# Altium schematic symbol library Global Library.SchLib: 120 symbols (part 2 of 2)
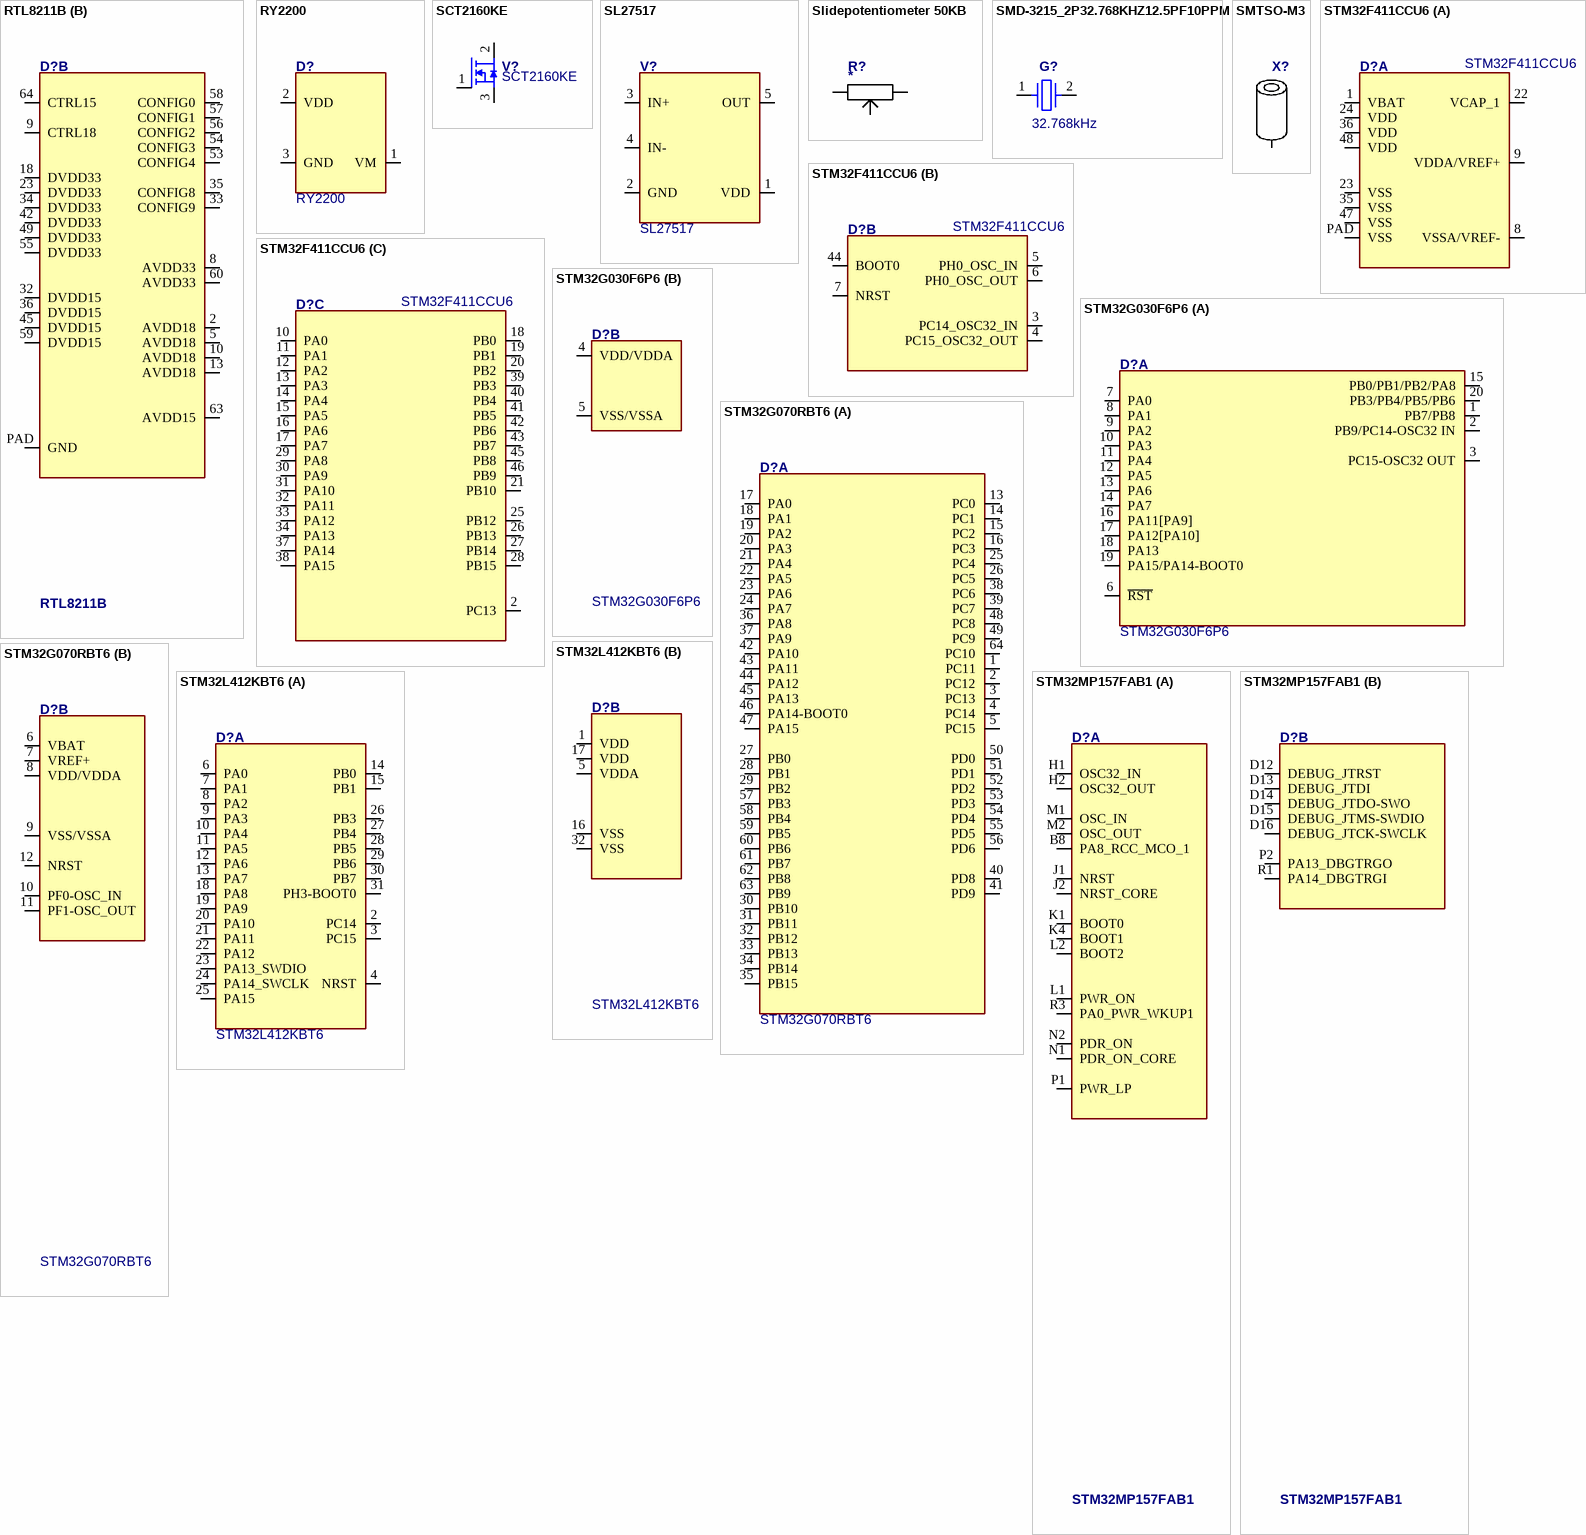
[diagram p8: symbols RTL8211B to STM32MP157FAB1]

## SCT2160KE
designator V?
MOSFET SIC 1200V 22A 160mOhm; Part_validated: No; Manufacturer: Rohm; GPV_Number: xxxx.xxxx; MNL_Number: xxxxxxxx; Value: SCT2160KE; Footprint_validated: No; PartStatus: New; System: -; ClassName: Through-Hole_Assy; Case/Package: TO247; Technology: THT; Manufacturer Part Number: SCT2160KE
footprint TO-247
footprint TO-247 bent bottom
pins: 1 G, 2 D, 3 S

## SL27517
designator V?
IC Gate Driver 4A; Part_validated: No; Manufacturer: SLKOR; GPV_Number: xxxx.xxxx; MNL_Number: xxxxxxxx; Value: SL27517; Footprint_validated: No; PartStatus: New; System: -; ClassName: Surface_Assy; Case/Package: SOT23-5; Technology: SMT; Manufacturer Part Number: SL27517
footprint SOT23-5_N_RF (SOT23, 5-Leads, Body 2.90x2.70mm, Pitch 0.95mm, IPC Medium Density)
pins: 1 VDD, 2 GND, 3 IN+, 4 IN-, 5 OUT

## Slidepotentiometer 50KB
designator R?
Slide Pot 50K center snap; Part_validated: Yes | No; Manufacturer: Hongyu; Manufacturer Part Number: HXX1N; GPV_Number: xxxx.xxxx; System: Connector; MNL_Number: xxxxxxxx; Value: *; Footprint_validated: Yes | No; PartStatus: New | Draft | Release; ClassName: Surface_Assy | Testpoint | Through-Hole_Assy | NetTie | Symbol | Mechanical; Case/Package: 0201 | 0402 | 0603 | 0805 | 1206 | SO8 | SO16 |; Technology: SMT | THT | SMT-BTC
footprint Slidepotentiometer 50K
pins: 1, 2, 3

## SMD-3215_2P32.768KHZ12.5PF10PPM
designator G?, comment 32.768kHz
Crystal Oscillator 32.768kHz 12.5pF ±20ppm; Part_validated: No; Manufacturer: ABEL ELECTRON; Manufacturer Part Number: SMD-3215_2P32.768KHZ12.5PF10PPM; GPV_Number: xxxx.xxxx; MNL_Number: xxxxxxxx; Value: 32.768kHz; Footprint_validated: No; PartStatus: New; System: -; ClassName: Surface_Assy; Case/Package: 3215; Technology: SMT
footprint G_3215_N_RF (Quarz Oscillator 2pin 3.2mm x 1.5mm)
pins: 1, 2

## SMTSO-M3
designator X?  (value not drawn)
CONN M3 Solder Nut 2, 4 or 6 mm high; Part_validated: No; GPV_Number: xxxx.xxxx; System: Connector; MNL_Number: xxxxxxxx; Value: *; Footprint_validated: No; PartStatus: New; ClassName: Through-Hole_Assy; Case/Package: 0201 | 0402 | 0603 | 0805 | 1206 | SO8 | SO16 |; Technology: THT; Manufacturer: *; Manufacturer Part Number: *
footprint SMTSO-M3-2ET
footprint SMTSO-M3-4ET
footprint SMTSO-M3-6ET
pins: 1

## STM32F411CCU6
designator D?
IC MCU Cortex-M4 256k Flash 128k RAM; Part_validated: No; Manufacturer: ST Microelectronics; GPV_Number: xxxx.xxxx; MNL_Number: xxxxxxxx; Value: STM32F411CCU6; Footprint_validated: No; PartStatus: New; System: -; ClassName: Surface_Assy; Case/Package: UFQFPN48; Technology: SMT; Manufacturer Part Number: STM32F411CCU6
footprint UFQFPN48_N_RF (QFN, 48-Leads, Body 7.00x7.00mm, Pitch 0.50mm, Thermal Pad 5.60x5.60mm, IPC Medium Density)
part A pins: 1 VBAT, 8 VSSA/VREF-, 9 VDDA/VREF+, 22 VCAP_1, 23 VSS, 24 VDD, 35 VSS, 36 VDD, 47 VSS, 48 VDD, PAD VSS
part B pins: 3 PC14_OSC32_IN, 4 PC15_OSC32_OUT, 5 PH0_OSC_IN, 6 PH0_OSC_OUT, 7 NRST, 44 BOOT0
part C pins: 2 PC13, 10 PA0, 11 PA1, 12 PA2, 13 PA3, 14 PA4, 15 PA5, 16 PA6, 17 PA7, 18 PB0, 19 PB1, 20 PB2, 21 PB10, 25 PB12, 26 PB13, 27 PB14, 28 PB15, 29 PA8, 30 PA9, 31 PA10, 32 PA11, 33 PA12, 34 PA13, 37 PA14, 38 PA15, 39 PB3, 40 PB4, 41 PB5, 42 PB6, 43 PB7, 45 PB8, 46 PB9

## STM32G030F6P6
designator D?
IC MCU Cortex M0+ 32K Flash, 8K RAM, 64MHz; Part_validated: No; Manufacturer: ST; GPV_Number: xxxx.xxxx; MNL_Number: xxxxxxxx; Value: STM32G030F6P6; Footprint_validated: No; PartStatus: New; System: -; ClassName: Surface_Assy; Case/Package: TSSOP20; Technology: SMT; Manufacturer Part Number: STM32G030F6P6; Supplier 1: Arrow Electronics; Supplier Part Number 1: STM32G030F6P6TR
footprint TSSOP20_N_RF
part A pins: 1 PB7/PB8, 2 PB9/PC14-OSC32 IN, 3 PC15-OSC32 OUT, 6 ~{RST}, 7 PA0, 8 PA1, 9 PA2, 10 PA3, 11 PA4, 12 PA5, 13 PA6, 14 PA7, 15 PB0/PB1/PB2/PA8, 16 PA11[PA9], 17 PA12[PA10], 18 PA13, 19 PA15/PA14-BOOT0, 20 PB3/PB4/PB5/PB6
part B pins: 4 VDD/VDDA, 5 VSS/VSSA

## STM32G070RBT6
designator D?
IC MCU Cortex M0+ 128k Flash, 36k RAM, 64MHz; Part_validated: No; Manufacturer: ST; GPV_Number: xxxx.xxxx; MNL_Number: xxxxxxxx; Value: STM32G070RBT6; Footprint_validated: No; PartStatus: New; System: -; ClassName: Surface_Assy; Case/Package: QFP64; Technology: SMT; Manufacturer Part Number: STM32G070RBT6
footprint LQFP64_50P1200X1200X160-64N (LQFP, 64-Leads, Body 10.00x10.00mm, Pitch 0.50mm, IPC Medium Density)
part A pins: 1 PC11, 2 PC12, 3 PC13, 4 PC14, 5 PC15, 13 PC0, 14 PC1, 15 PC2, 16 PC3, 17 PA0, 18 PA1, 19 PA2, 20 PA3, 21 PA4, 22 PA5, 23 PA6, 24 PA7, 25 PC4, 26 PC5, 27 PB0, 28 PB1, 29 PB2, 30 PB10, 31 PB11, 32 PB12, 33 PB13, 34 PB14, 35 PB15, 36 PA8, 37 PA9, 38 PC6, 39 PC7, 40 PD8, 41 PD9, 42 PA10, 43 PA11, 44 PA12, 45 PA13, 46 PA14-BOOT0, 47 PA15, 48 PC8, 49 PC9, 50 PD0, 51 PD1, 52 PD2, 53 PD3, 54 PD4, 55 PD5, 56 PD6, 57 PB3, 58 PB4, 59 PB5, 60 PB6, 61 PB7, 62 PB8, 63 PB9, 64 PC10
part B pins: 6 VBAT, 7 VREF+, 8 VDD/VDDA, 9 VSS/VSSA, 10 PF0-OSC_IN, 11 PF1-OSC_OUT, 12 NRST

## STM32L412KBT6
designator D?
IC MCU STM32; Part_validated: No; Manufacturer: STM; GPV_Number: xxxx.xxxx; MNL_Number: xxxxxxxx; Value: STM32L412KBT6; Footprint_validated: No; PartStatus: New; System: -; ClassName: Surface_Assy; Case/Package: LQFP32; Technology: SMT; Manufacturer Part Number: STM32L412KBT6
footprint LQFP32_N_RF (TQFP, 32-Leads, Body 7.00x7.00mm, Pitch 0.80mm, IPC Medium Density)
part A pins: 2 PC14, 3 PC15, 4 NRST, 6 PA0, 7 PA1, 8 PA2, 9 PA3, 10 PA4, 11 PA5, 12 PA6, 13 PA7, 14 PB0, 15 PB1, 18 PA8, 19 PA9, 20 PA10, 21 PA11, 22 PA12, 23 PA13_SWDIO, 24 PA14_SWCLK, 25 PA15, 26 PB3, 27 PB4, 28 PB5, 29 PB6, 30 PB7, 31 PH3-BOOT0
part B pins: 1 VDD, 5 VDDA, 16 VSS, 17 VDD, 32 VSS

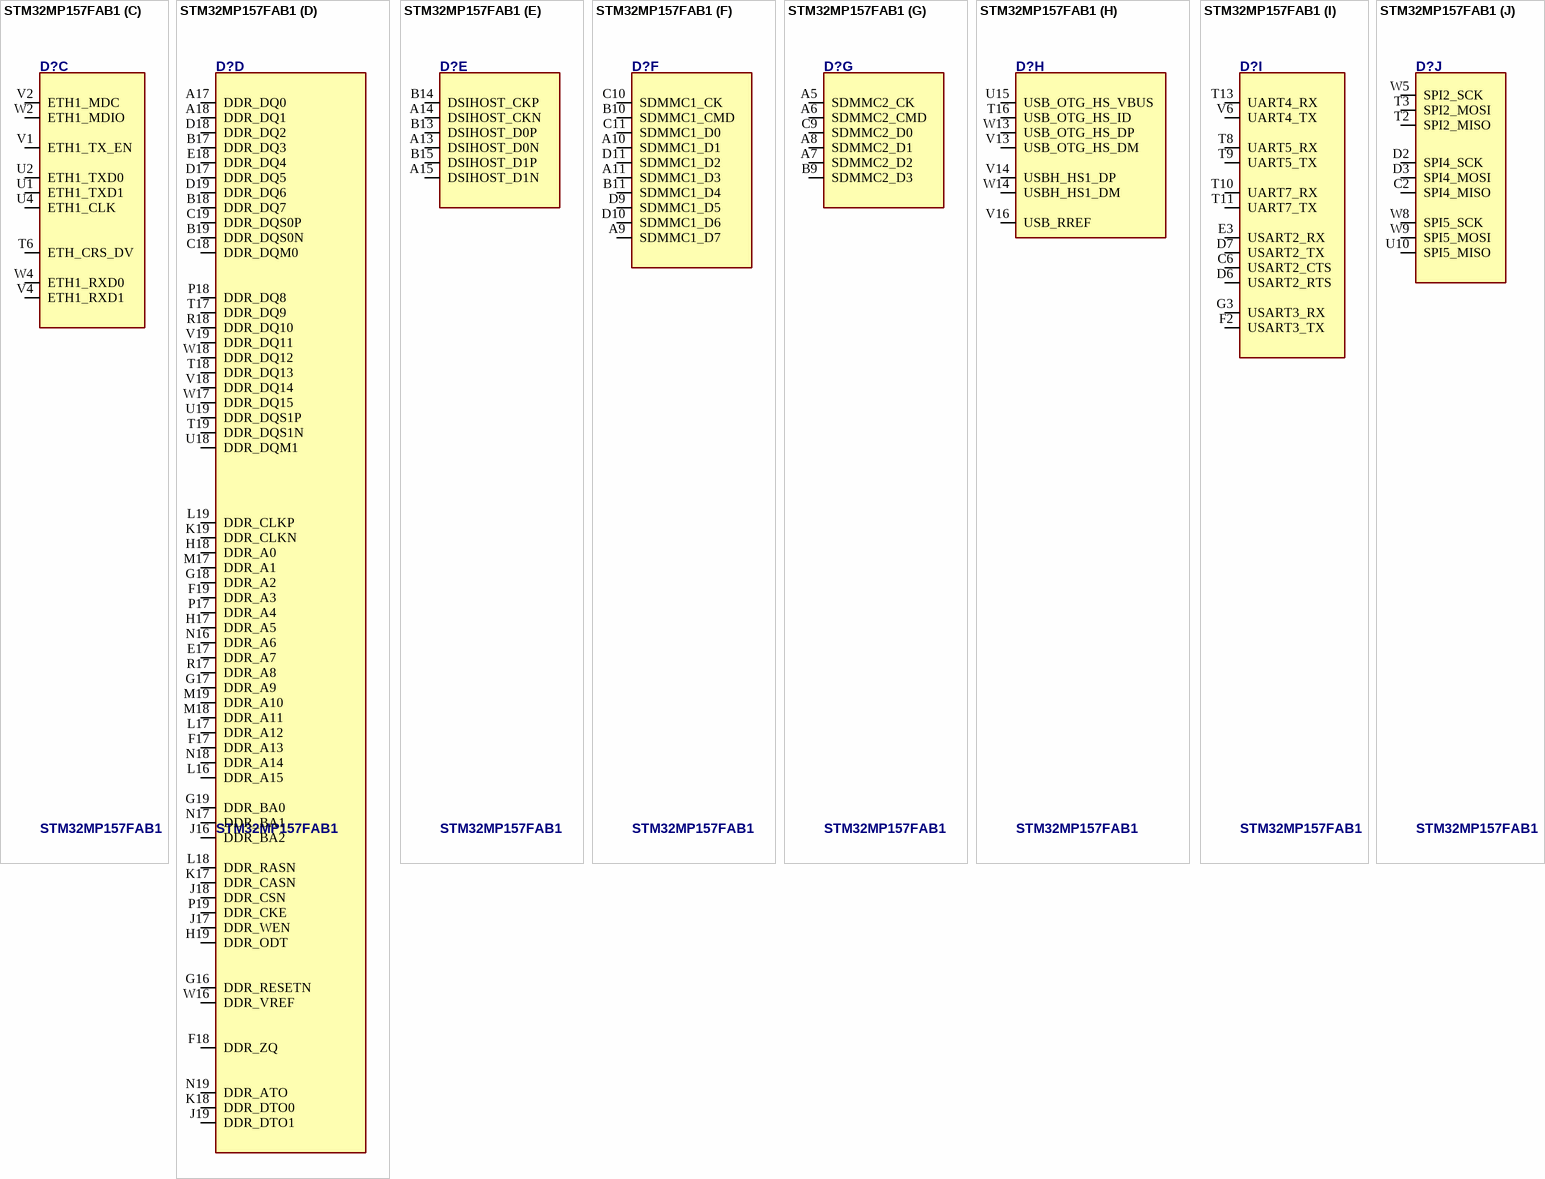
[diagram p5: symbol STM32MP157FAB1]

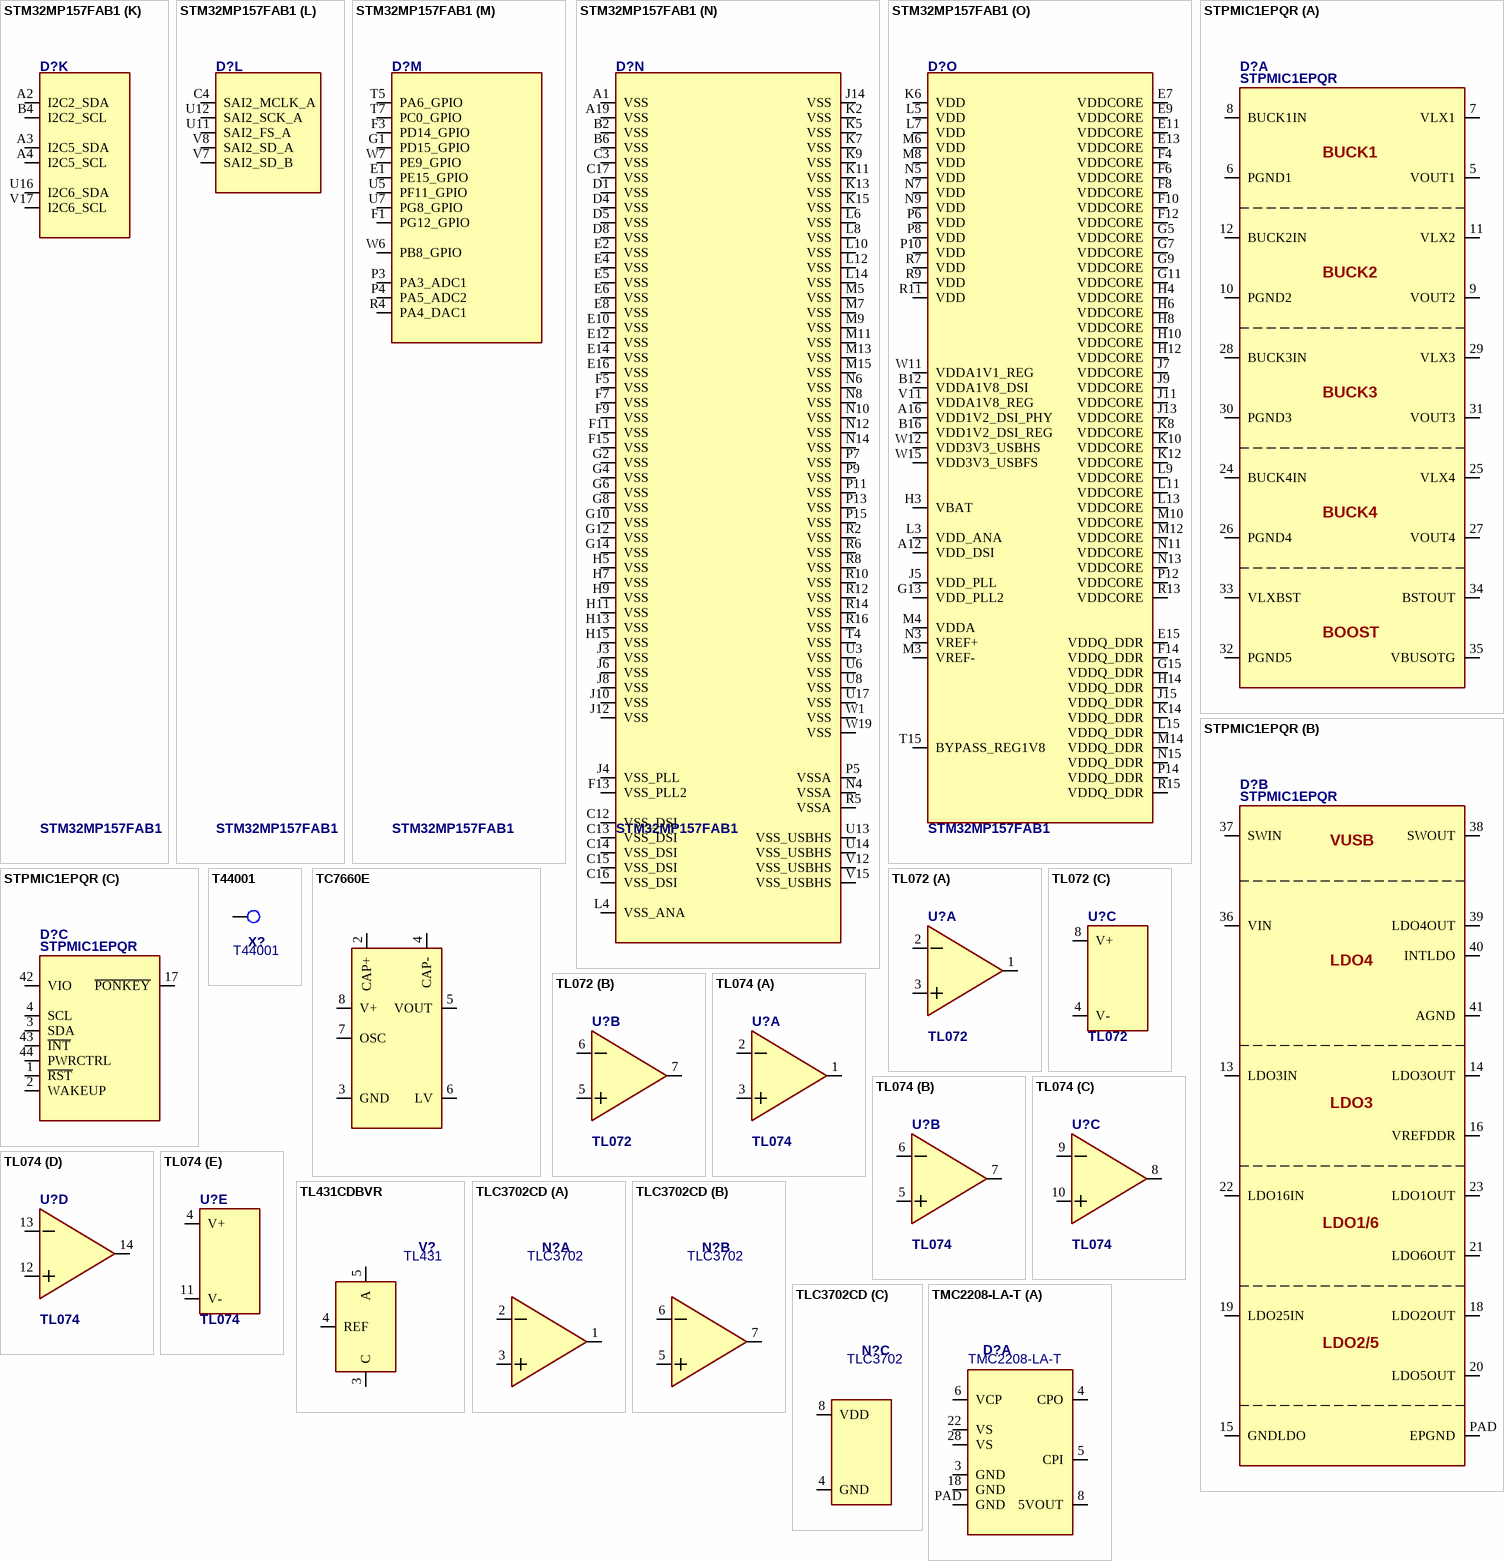
[diagram p6: symbols STM32MP157FAB1 to TMC2208-LA-T]

## STM32MP157FAB1
designator D?
CPU Dual Core Cortex-A7 800MHz; Part_validated: No; Manufacturer: STMicroelectronics; GPV_Number: xxxx.xxxx; MNL_Number: xxxxxxxx; Value: STM32MP157FAB1; Footprint_validated: No; PartStatus: New; System: -; ClassName: Surface_Assy | Testpoint | Through-Hole_Assy | NetTie | Symbol | Mechanical; Case/Package: 0201 | 0402 | 0603 | 0805 | 1206 | SO8 | SO16 |; Technology: SMT; Manufacturer Part Number: STM32MP157FAB1
footprint LFBGA354_N_RF (BGA, 354-Leads, Body 16.00x16.00mmx1.29mm, Pitch 0.80mm)
part A pins: B8 PA8_RCC_MCO_1, H1 OSC32_IN, H2 OSC32_OUT, J1 NRST, J2 NRST_CORE, K1 BOOT0, K4 BOOT1, L1 PWR_ON, L2 BOOT2, M1 OSC_IN, M2 OSC_OUT, N1 PDR_ON_CORE, N2 PDR_ON, P1 PWR_LP, R3 PA0_PWR_WKUP1
part B pins: D12 DEBUG_JTRST, D13 DEBUG_JTDI, D14 DEBUG_JTDO-SWO, D15 DEBUG_JTMS-SWDIO, D16 DEBUG_JTCK-SWCLK, P2 PA13_DBGTRGO, R1 PA14_DBGTRGI
part C pins: T6 ETH_CRS_DV, U1 ETH1_TXD1, U2 ETH1_TXD0, U4 ETH1_CLK, V1 ETH1_TX_EN, V2 ETH1_MDC, V4 ETH1_RXD1, W2 ETH1_MDIO, W4 ETH1_RXD0
part D pins: A17 DDR_DQ0, A18 DDR_DQ1, B17 DDR_DQ3, B18 DDR_DQ7, B19 DDR_DQS0N, C18 DDR_DQM0, C19 DDR_DQS0P, D17 DDR_DQ5, D18 DDR_DQ2, D19 DDR_DQ6, E17 DDR_A7, E18 DDR_DQ4, F17 DDR_A13, F18 DDR_ZQ, F19 DDR_A3, G16 DDR_RESETN, G17 DDR_A9, G18 DDR_A2, G19 DDR_BA0, H17 DDR_A5, H18 DDR_A0, H19 DDR_ODT, J16 DDR_BA2, J17 DDR_WEN, J18 DDR_CSN, J19 DDR_DTO1, K17 DDR_CASN, K18 DDR_DTO0, K19 DDR_CLKN, L16 DDR_A15, L17 DDR_A12, L18 DDR_RASN, L19 DDR_CLKP, M17 DDR_A1, M18 DDR_A11, M19 DDR_A10, N16 DDR_A6, N17 DDR_BA1, N18 DDR_A14, N19 DDR_ATO, P17 DDR_A4, P18 DDR_DQ8, P19 DDR_CKE, R17 DDR_A8, R18 DDR_DQ10, T17 DDR_DQ9, T18 DDR_DQ13, T19 DDR_DQS1N, U18 DDR_DQM1, U19 DDR_DQS1P, V18 DDR_DQ14, V19 DDR_DQ11, W16 DDR_VREF, W17 DDR_DQ15, W18 DDR_DQ12
part E pins: A13 DSIHOST_D0N, A14 DSIHOST_CKN, A15 DSIHOST_D1N, B13 DSIHOST_D0P, B14 DSIHOST_CKP, B15 DSIHOST_D1P
part F pins: A9 SDMMC1_D7, A10 SDMMC1_D1, A11 SDMMC1_D3, B10 SDMMC1_CMD, B11 SDMMC1_D4, C10 SDMMC1_CK, C11 SDMMC1_D0, D9 SDMMC1_D5, D10 SDMMC1_D6, D11 SDMMC1_D2
part G pins: A5 SDMMC2_CK, A6 SDMMC2_CMD, A7 SDMMC2_D2, A8 SDMMC2_D1, B9 SDMMC2_D3, C9 SDMMC2_D0
part H pins: T16 USB_OTG_HS_ID, U15 USB_OTG_HS_VBUS, V13 USB_OTG_HS_DM, V14 USBH_HS1_DP, V16 USB_RREF, W13 USB_OTG_HS_DP, W14 USBH_HS1_DM
part I pins: C6 USART2_CTS, D6 USART2_RTS, D7 USART2_TX, E3 USART2_RX, F2 USART3_TX, G3 USART3_RX, T8 UART5_RX, T9 UART5_TX, T10 UART7_RX, T11 UART7_TX, T13 UART4_RX, V6 UART4_TX
part J pins: C2 SPI4_MISO, D2 SPI4_SCK, D3 SPI4_MOSI, T2 SPI2_MISO, T3 SPI2_MOSI, U10 SPI5_MISO, W5 SPI2_SCK, W8 SPI5_SCK, W9 SPI5_MOSI
part K pins: A2 I2C2_SDA, A3 I2C5_SDA, A4 I2C5_SCL, B4 I2C2_SCL, U16 I2C6_SDA, V17 I2C6_SCL
part L pins: C4 SAI2_MCLK_A, U11 SAI2_FS_A, U12 SAI2_SCK_A, V7 SAI2_SD_B, V8 SAI2_SD_A
part M pins: E1 PE15_GPIO, F1 PG12_GPIO, F3 PD14_GPIO, G1 PD15_GPIO, P3 PA3_ADC1, P4 PA5_ADC2, R4 PA4_DAC1, T5 PA6_GPIO, T7 PC0_GPIO, U5 PF11_GPIO, U7 PG8_GPIO, W6 PB8_GPIO, W7 PE9_GPIO
part N pins: A1 VSS, A19 VSS, B2 VSS, B6 VSS, C3 VSS, C12 VSS_DSI, C13 VSS_DSI, C14 VSS_DSI, C15 VSS_DSI, C16 VSS_DSI, C17 VSS, D1 VSS, D4 VSS, D5 VSS, D8 VSS, E2 VSS, E4 VSS, E5 VSS, E6 VSS, E8 VSS, E10 VSS, E12 VSS, E14 VSS, E16 VSS, F5 VSS, F7 VSS, F9 VSS, F11 VSS, F13 VSS_PLL2, F15 VSS, G2 VSS, G4 VSS, G6 VSS, G8 VSS, G10 VSS, G12 VSS, G14 VSS, H5 VSS, H7 VSS, H9 VSS, H11 VSS, H13 VSS, H15 VSS, J3 VSS, J4 VSS_PLL, J6 VSS, J8 VSS, J10 VSS, J12 VSS, J14 VSS, K2 VSS, K5 VSS, K7 VSS, K9 VSS, K11 VSS, K13 VSS, K15 VSS, L4 VSS_ANA, L6 VSS, L8 VSS, L10 VSS, L12 VSS, L14 VSS, M5 VSS, M7 VSS, M9 VSS, M11 VSS, M13 VSS, M15 VSS, N4 VSSA, N6 VSS, N8 VSS, N10 VSS, N12 VSS, N14 VSS, P5 VSSA, P7 VSS, P9 VSS, P11 VSS, P13 VSS, P15 VSS, R2 VSS, R5 VSSA, R6 VSS, R8 VSS, R10 VSS, R12 VSS, R14 VSS, R16 VSS, T4 VSS, U3 VSS, U6 VSS, U8 VSS, U13 VSS_USBHS, U14 VSS_USBHS, U17 VSS, V12 VSS_USBHS, V15 VSS_USBHS, W1 VSS, W19 VSS
part O pins: A12 VDD_DSI, A16 VDD1V2_DSI_PHY, B12 VDDA1V8_DSI, B16 VDD1V2_DSI_REG, E7 VDDCORE, E9 VDDCORE, E11 VDDCORE, E13 VDDCORE, E15 VDDQ_DDR, F4 VDDCORE, F6 VDDCORE, F8 VDDCORE, F10 VDDCORE, F12 VDDCORE, F14 VDDQ_DDR, G5 VDDCORE, G7 VDDCORE, G9 VDDCORE, G11 VDDCORE, G13 VDD_PLL2, G15 VDDQ_DDR, H3 VBAT, H4 VDDCORE, H6 VDDCORE, H8 VDDCORE, H10 VDDCORE, H12 VDDCORE, H14 VDDQ_DDR, J5 VDD_PLL, J7 VDDCORE, J9 VDDCORE, J11 VDDCORE, J13 VDDCORE, J15 VDDQ_DDR, K6 VDD, K8 VDDCORE, K10 VDDCORE, K12 VDDCORE, K14 VDDQ_DDR, L3 VDD_ANA, L5 VDD, L7 VDD, L9 VDDCORE, L11 VDDCORE, L13 VDDCORE, L15 VDDQ_DDR, M3 VREF-, M4 VDDA, M6 VDD, M8 VDD, M10 VDDCORE, M12 VDDCORE, M14 VDDQ_DDR, N3 VREF+, N5 VDD, N7 VDD, N9 VDD, N11 VDDCORE, N13 VDDCORE, N15 VDDQ_DDR, P6 VDD, P8 VDD, P10 VDD, P12 VDDCORE, P14 VDDQ_DDR, R7 VDD, R9 VDD, R11 VDD, R13 VDDCORE, R15 VDDQ_DDR, T15 BYPASS_REG1V8, V11 VDDA1V8_REG, W11 VDDA1V1_REG, W12 VDD3V3_USBHS, W15 VDD3V3_USBFS

## STPMIC1EPQR
designator D?
PMIC for STM32MP1 Microprocessors; Part_validated: Yes | No; GPV_Number: xxxx.xxxx; System: Connector; MNL_Number: xxxxxxxx; Value: STPMIC1EPQR; Footprint_validated: Yes | No; PartStatus: New | Draft | Release; ClassName: Surface_Assy | Testpoint | Through-Hole_Assy | NetTie | Symbol | Mechanical; Case/Package: 0201 | 0402 | 0603 | 0805 | 1206 | SO8 | SO16 |; Technology: SMT | THT | SMT-BTC; Manufacturer: *; Manufacturer Part Number: *
footprint QFN44_N_RF (QFN, 44-Leads, Body 5.00x6.00mm, Pitch 0.40mm, Thermal Pad 3.50x4.50mm, IPC Medium Density)
part A pins: 5 VOUT1, 6 PGND1, 7 VLX1, 8 BUCK1IN, 9 VOUT2, 10 PGND2, 11 VLX2, 12 BUCK2IN, 24 BUCK4IN, 25 VLX4, 26 PGND4, 27 VOUT4, 28 BUCK3IN, 29 VLX3, 30 PGND3, 31 VOUT3, 32 PGND5, 33 VLXBST, 34 BSTOUT, 35 VBUSOTG
part B pins: 13 LDO3IN, 14 LDO3OUT, 15 GNDLDO, 16 VREFDDR, 18 LDO2OUT, 19 LDO25IN, 20 LDO5OUT, 21 LDO6OUT, 22 LDO16IN, 23 LDO1OUT, 36 VIN, 37 SWIN, 38 SWOUT, 39 LDO4OUT, 40 INTLDO, 41 AGND, PAD EPGND
part C pins: 1 ~{RST}, 2 WAKEUP, 3 SDA, 4 SCL, 17 ~{PONKEY}, 42 VIO, 43 ~{INT}, 44 PWRCTRL
part A text: BUCK1; BUCK2; BUCK3; BUCK4; BOOST
part B text: VUSB; LDO4; LDO3; LDO1/6; LDO2/5

## T44001
designator X?
CONN SCREW TERMINAL M4 40A; Part_validated: No; Manufacturer: XFCN; GPV_Number: C481447; System: Connector; MNL_Number: xxxxxxxx; Value: T44001; Footprint_validated: No; PartStatus: New; ClassName: Through-Hole_Assy; Case/Package: -; Technology: SMT; Manufacturer Part Number: T44001
footprint T44001
pins: 1

## TC7660E
designator U?
IC REG Charge Pump negative; Part_validated: No; Manufacturer: Microchip; GPV_Number: xxxx.xxxx; MNL_Number: xxxxxxxx; Value: TC7660E; Footprint_validated: No; PartStatus: New; System: -; ClassName: Surface_Assy; Case/Package: SO8; Technology: SMT; Manufacturer Part Number: TC7660E; Supplier 1: Onlinecomponents.com; Supplier Part Number 1: TC7660EOA
footprint SOIC8_N_RF (SOIC, 8-Leads, Body 4.90x3.90mm, Pitch 1.27mm, IPC Medium Density)
pins: 2 CAP+, 3 GND, 4 CAP-, 5 VOUT, 6 LV, 7 OSC, 8 V+

## TL072
designator U?
Dual Low-Noise JFET-Input General-Purpose Operational Amplifier, 7 to 36 V, 0 to 70 degC, 14-pin SOIC (D14), Green (RoHS & no Sb/Br); PartNumber: TL074CD; Manufacturer: Texas Instruments; Iq per channel(Max)(mA): 2.5; CMRR(Min)(dB): 70; Offset Drift(Typ)(uV/C): 18; Slew Rate(Typ)(V/us): 13; Rating: Military; Number of Channels: 4; Total Supply Voltage(Min)(+5V is 5, +/-5V is 10): 7; Sub Family: General Purpose Amplifier, High Supply Voltage Amplifier (>=30V); IIB(Max)(pA): 200; Total Supply Voltage(Max)(+5V is 5, +/-5V is 10): 36; Vio (25C)(Max)(mV): 10; GBW(Typ)(MHz): 3; ComponentLink1Description: Manufacturer URL; ComponentLink2Description: Datasheet; PackageDescription: 14-Pin Plastic Small Outline, Body 8.65 x 3.90 mm, Pitch 1.27 mm; Mounting Technology: Surface Mount; ComponentLink2URL: http://www.ti.com/lit/ds/symlink/tl074.pdf; Vn at 1kHz(Typ)(nV/rtHz): 18; Eco-Plan: Green (RoHS & no Sb/Br); ComponentLink1URL: http://www.ti.com/; PackageVersion: 4040047-5/M, 06/2011; ComponentLink3Description: Package Specification; DatasheetVersion: SLOS080J; Code_JEDEC: MS-012; PackageReference: D0014A; ComponentLink3URL: http://www.ti.com/lit/ml/mpds177g/mpds177g.pdf
footprint SOIC8_L_RF (SOIC, 8-Leads, Body 4.90x3.90mm, Pitch 1.27mm, IPC High Density)
footprint SOIC8_N_RF (SOIC, 8-Leads, Body 4.90x3.90mm, Pitch 1.27mm, IPC Medium Density)
part A pins: 1, 2, 3
part B pins: 5, 6, 7
part C pins: 4 V-, 8 V+

## TL074
designator U?
Quad Low-Noise JFET-Input General-Purpose Operational Amplifier, 7 to 36 V, 0 to 70 degC, 14-pin SOIC (D14), Green (RoHS & no Sb/Br); PartNumber: TL074CD; Manufacturer: Texas Instruments; Iq per channel(Max)(mA): 2.5; CMRR(Min)(dB): 70; Offset Drift(Typ)(uV/C): 18; Slew Rate(Typ)(V/us): 13; Rating: Military; Number of Channels: 4; Total Supply Voltage(Min)(+5V is 5, +/-5V is 10): 7; Sub Family: General Purpose Amplifier, High Supply Voltage Amplifier (>=30V); IIB(Max)(pA): 200; Total Supply Voltage(Max)(+5V is 5, +/-5V is 10): 36; Vio (25C)(Max)(mV): 10; GBW(Typ)(MHz): 3; ComponentLink1Description: Manufacturer URL; ComponentLink2Description: Datasheet; PackageDescription: 14-Pin Plastic Small Outline, Body 8.65 x 3.90 mm, Pitch 1.27 mm; Mounting Technology: Surface Mount; ComponentLink2URL: http://www.ti.com/lit/ds/symlink/tl074.pdf; Vn at 1kHz(Typ)(nV/rtHz): 18; Eco-Plan: Green (RoHS & no Sb/Br); ComponentLink1URL: http://www.ti.com/; PackageVersion: 4040047-5/M, 06/2011; ComponentLink3Description: Package Specification; DatasheetVersion: SLOS080J; Code_JEDEC: MS-012; PackageReference: D0014A; ComponentLink3URL: http://www.ti.com/lit/ml/mpds177g/mpds177g.pdf
footprint D0014A_N (SOIC, 14-Leads, Body 8.75x4mm, Pitch 1.27mm, IPC Medium Density)
part A pins: 1, 2, 3
part B pins: 5, 6, 7
part C pins: 8, 9, 10
part D pins: 12, 13, 14
part E pins: 4 V+, 11 V-

## TL431CDBVR
designator V?, comment TL431
IC VREF 2.495V; Part_validated: No; Manufacturer: TI; Manufacturer Part Number: TL431CDBVR; GPV_Number: xxxx.xxxx; MNL_Number: xxxxxxxx; Value: TL431; Footprint_validated: No; PartStatus: New; System: -; ClassName: Surface_Assy; Case/Package: SOT-23-5; Technology: SMT
footprint SOT23-5_N_RF (SOT23, 5-Leads, Body 2.90x2.70mm, Pitch 0.95mm, IPC Medium Density)
pins: 3 C, 4 REF, 5 A

## TLC3702CD
designator N?, comment TLC3702
IC Opamp Dual 3-16V Push-Pull; Part_validated: No; Manufacturer: TI; Manufacturer Part Number: TLC3702CD; GPV_Number: xxxx.xxxx; MNL_Number: xxxxxxxx; Value: TLC3702; Footprint_validated: No; PartStatus: New; System: -; ClassName: Surface_Assy; Case/Package: SO8; Technology: SMT
footprint SOIC8_N_RF (SOIC, 8-Leads, Body 4.90x3.90mm, Pitch 1.27mm, IPC Medium Density)
footprint SOIC8_L_RF (SOIC, 8-Leads, Body 4.90x3.90mm, Pitch 1.27mm, IPC High Density)
part A pins: 1, 2, 3
part B pins: 5, 6, 7
part C pins: 4 GND, 8 VDD

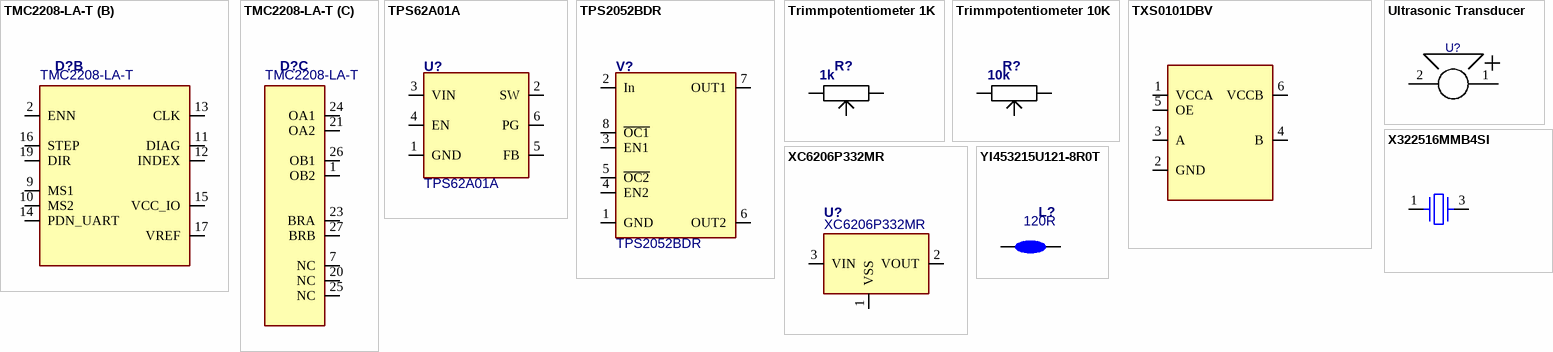
[diagram p7: symbols TMC2208-LA-T to YI453215U121-8R0T]

## TMC2208-LA-T
designator D?
IC DRIVER Stepper 1.4A; Part_validated: No; Manufacturer: Analog Devices; GPV_Number: xxxx.xxxx; MNL_Number: xxxxxxxx; Value: TMC2208-LA-T; Footprint_validated: No; PartStatus: New; System: -; ClassName: Surface_Assy; Case/Package: QFN28; Technology: SMT; Manufacturer Part Number: TMC2208-LA-T
footprint QFN28_N_RF (QFN, 28-Leads, Body 5.00x5.00mm, Pitch 0.50mm, Thermal Pad 3.10x3.10mm, IPC Medium Density)
part A pins: 3 GND, 4 CPO, 5 CPI, 6 VCP, 8 5VOUT, 18 GND, 22 VS, 28 VS, PAD GND
part B pins: 2 ENN, 9 MS1, 10 MS2, 11 DIAG, 12 INDEX, 13 CLK, 14 PDN_UART, 15 VCC_IO, 16 STEP, 17 VREF, 19 DIR
part C pins: 1 OB2, 7 NC, 20 NC, 21 OA2, 23 BRA, 24 OA1, 25 NC, 26 OB1, 27 BRB

## TPS62A01A
designator U?
IC BUCK 1A 2.5-5.5Vin 2.4MHz; Manufacturer: TI; Manufacturer Part Number: TPS62A01ADRLR; CPN: 10018707-E; LPN: 1291853; Value: TPS62A01A; System: -; ClassName: Surface_Assy; Case/Package: SOT563; Technology: SMT; Supplier 1: Mouser; Supplier Part Number 1: 595-TPS62A01ADRLR
footprint SOT-563_N_RF (SOTFL, 6-Leads, Body 1.60x1.60mm, Pitch 0.50mm, IPC Medium Density)
pins: 1 GND, 2 SW, 3 VIN, 4 EN, 5 FB, 6 PG

## TPS2052BDR
designator V?
IC USB Power SW Dual 5.5V 0.75A to 1.25A SOIC-8; Part_validated: Yes; Manufacturer: Texas Instruments; GPV_Number: xxxx.xxxx; MNL_Number: xxxxxxxx; Value: TPS2052BDR; Footprint_validated: Yes; PartStatus: New; System: -; ClassName: Surface_Assy; Case/Package: SOIC-8; Technology: SMT; Manufacturer Part Number: TPS2052BDR; ComponentLink1URL: https://datasheet.ciiva.com/15108/getdatasheetpartid-534213-15108609.pdf?src-supplier=Verical; ComponentLink1Description: https://datasheet.ciiva.com/15108/getdatasheetpartid-534213-15108609.pdf?src-supplier=Verical; ComponentLink2URL: https://datasheet.ciiva.com/1963/tps2042b-1963605.pdf?src-supplier=Digi-Key; ComponentLink2Description: https://datasheet.ciiva.com/1963/tps2042b-1963605.pdf?src-supplier=Digi-Key; ComponentLink3URL: https://datasheet.ciiva.com/26166/tps2051b-26166261.pdf?src-supplier=Avnet+Europe; ComponentLink3Description: https://datasheet.ciiva.com/26166/tps2051b-26166261.pdf?src-supplier=Avnet+Europe; ComponentLink4URL: https://datasheet.ciiva.com/3234/tps2051b-3234903.pdf?src-supplier=Avnet; ComponentLink4Description: https://datasheet.ciiva.com/3234/tps2051b-3234903.pdf?src-supplier=Avnet; Supplier 1: Mouser; Supplier Part Number 1: 595-TPS2052BDR
footprint SOIC8_L_RF (SOIC, 8-Leads, Body 4.90x3.90mm, Pitch 1.27mm, IPC High Density)
footprint SOIC8_N_RF (SOIC, 8-Leads, Body 4.90x3.90mm, Pitch 1.27mm, IPC Medium Density)
pins: 1 GND, 2 In, 3 EN1, 4 EN2, 5 ~{OC2}, 6 OUT2, 7 OUT1, 8 ~{OC1}

## Trimmpotentiometer 1K
designator R?, comment 1k
Trimmpot von LCSC C118949; Part_validated: Yes | No; Manufacturer: Bochen; Manufacturer Part Number: 3296W-1-102; GPV_Number: xxxx.xxxx; System: Connector; MNL_Number: xxxxxxxx; Value: 1k; Footprint_validated: Yes | No; PartStatus: New | Draft | Release; ClassName: Surface_Assy | Testpoint | Through-Hole_Assy | NetTie | Symbol | Mechanical; Case/Package: 0201 | 0402 | 0603 | 0805 | 1206 | SO8 | SO16 |; Technology: SMT | THT | SMT-BTC
footprint Trimmpot
pins: 1, 2, 3

## Trimmpotentiometer 10K
designator R?, comment 10k
Trimmpot von LCSC; Part_validated: Yes | No; Manufacturer: Bochen; Manufacturer Part Number: 3296W-1-103; GPV_Number: xxxx.xxxx; System: Connector; MNL_Number: xxxxxxxx; Value: 10k; Footprint_validated: Yes | No; PartStatus: New | Draft | Release; ClassName: Surface_Assy | Testpoint | Through-Hole_Assy | NetTie | Symbol | Mechanical; Case/Package: 0201 | 0402 | 0603 | 0805 | 1206 | SO8 | SO16 |; Technology: SMT | THT | SMT-BTC
footprint Trimmpot
pins: 1, 2, 3

## TXS0101DBV
designator D?
LOGIC Level Shifter 1CH 1.65V-5.5V; Part_validated: No; Manufacturer: TI; GPV_Number: xxxx.xxxx; MNL_Number: xxxxxxxx; Value: TXS0101DBV; Footprint_validated: No; PartStatus: New; System: -; ClassName: Surface_Assy; Case/Package: SOT23-6; Technology: SMT; Manufacturer Part Number: TXS0101DBV
footprint SOT23-6_N_RF (SOT23, 6-Leads, Body 2.90x2.70mm, Pitch 0.95mm, IPC Medium Density)
pins: 1 VCCA, 2 GND, 3 A, 4 B, 5 OE, 6 VCCB

## Ultrasonic Transducer
designator U?  (value not drawn)
TRANSDUCER 40KHz ~2nF
footprint ULTRASONIC TRANSDUCER 40KHZ
pins: 1, 2

## X322516MMB4SI
designator G?, comment 16MHz
Crystal Oscillator 16MHz 10pF ±10ppm LCSC C112972; Part_validated: No; Manufacturer: Yangwing Tech; Manufacturer Part Number: X322516MMB4SI; GPV_Number: xxxx.xxxx; MNL_Number: xxxxxxxx; Value: 16MHz; Footprint_validated: No; PartStatus: New; System: -; ClassName: Surface_Assy; Case/Package: 2532; Technology: SMT
footprint G_3225_N_RF (Crystal Oscillator  2.5mm X 3.2mm)
pins: 1, 3

## XC6206P332MR
designator U?
IC REG LDO 3.3V 200mA; Part_validated: No; Manufacturer: Torex; GPV_Number: xxxx.xxxx; MNL_Number: xxxxxxxx; Value: XC6206P332MR; Footprint_validated: No; PartStatus: New; System: -; ClassName: Surface_Assy; Case/Package: SOT23; Technology: SMT; Manufacturer Part Number: XC6206P332MR
footprint SOT23_N_RF (SOT23, 3-Leads, Body 2.9x1.3mm, Pitch 0.95mm, Lead Span 2.4mm, IPC Medium Density)
pins: 1 VSS, 2 VOUT, 3 VIN

## YI453215U121-8R0T
designator L?, comment 120R
Ferrite Bead 120R 8A 1812 C2858475; Part_validated: No; Manufacturer: YJYCOIN; Manufacturer Part Number: YI453215U121-8R0T; GPV_Number: xxxx.xxxx; MNL_Number: xxxxxxxx; Value: 120R; Footprint_validated: No; PartStatus: New; System: -; ClassName: Surface_Assy; Case/Package: 1812; Technology: SMT
footprint L_1812_N_RF (Chip Inductor, 2-Leads, Body 4.50x3.20mm, IPC Medium Density)
pins: 1, 2